# Altium footprint library plcc-socket.PCBLIB: 19 footprints (part 2 of 2)
Each footprint in its own frame and in the unit in brackets; x right, y up, seen from the top. Pads: shape width x height; smd on the part's side, far side on the other; paste and mask are expansions set on the pad; w line width, h text height; cw(c..) or ccw(c..) is an arc to the next point about the centre after c.
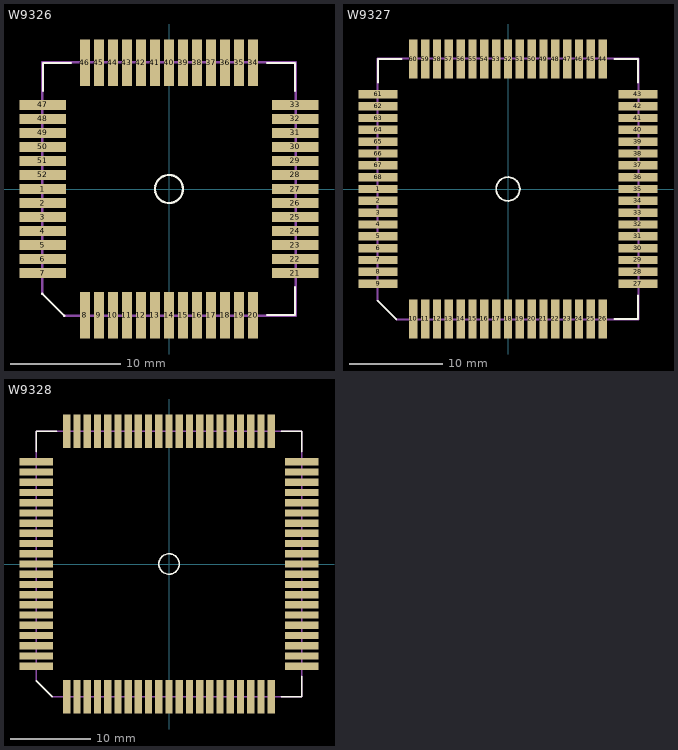
[diagram p1: the footprints below, top view; thin cyan lines are the x and y axes]

## W9326 [mil]
pads (52):
  rect 165.35x35.43 smd: 1(-450.79,0) 2(-450.79,-50) 3(-450.79,-100) 4(-450.79,-150) 5(-450.79,-200) 6(-450.79,-250) 7(-450.79,-300) 21(450.79,-300) 22(450.79,-250) 23(450.79,-200) 24(450.79,-150) 25(450.79,-100) 26(450.79,-50) 27(450.79,0) 28(450.79,50) 29(450.79,100) 30(450.79,150) 31(450.79,200) 32(450.79,250) 33(450.79,300) 47(-450.79,300) 48(-450.79,250) 49(-450.79,200) 50(-450.79,150) 51(-450.79,100) 52(-450.79,50)
  rect 35.43x165.35 smd: 8(-300,-450.79) 9(-250,-450.79) 10(-200,-450.79) 11(-150,-450.79) 12(-100,-450.79) 13(-50,-450.79) 14(0,-450.79) 15(50,-450.79) 16(100,-450.79) 17(150,-450.79) 18(200,-450.79) 19(250,-450.79) 20(300,-450.79) 34(300,450.79) 35(250,450.79) 36(200,450.79) 37(150,450.79) 38(100,450.79) 39(50,450.79) 40(0,450.79) 41(-50,450.79) 42(-100,450.79) 43(-150,450.79) 44(-200,450.79) 45(-250,450.79) 46(-300,450.79)
Top Overlay:
  circle w8: c0,0 r50
  lines w8: -452.76,-374.02 -374.02,-452.76 ; -450,350 -450,450 -350,450 ; 350,-450 450,-450 450,-350 ; 350,450 450,450 450,350
Top Paste:
  rectangle: -531.5,-16.73 -370.08,16.73
  rectangle: -531.5,-66.73 -370.08,-33.27
  rectangle: -531.5,-116.73 -370.08,-83.27
  rectangle: -531.5,-166.73 -370.08,-133.27
  rectangle: -531.5,-216.73 -370.08,-183.27
  rectangle: -531.5,-266.73 -370.08,-233.27
  rectangle: -531.5,-316.73 -370.08,-283.27
  region: -283.27,-531.5 -283.27,-370.08 -316.73,-370.08 -316.73,-531.5
  region: -233.27,-531.5 -233.27,-370.08 -266.73,-370.08 -266.73,-531.5
  region: -183.27,-531.5 -183.27,-370.08 -216.73,-370.08 -216.73,-531.5
  region: -133.27,-531.5 -133.27,-370.08 -166.73,-370.08 -166.73,-531.5
  region: -83.27,-531.5 -83.27,-370.08 -116.73,-370.08 -116.73,-531.5
  region: -33.27,-531.5 -33.27,-370.08 -66.73,-370.08 -66.73,-531.5
  region: 16.73,-531.5 16.73,-370.08 -16.73,-370.08 -16.73,-531.5
  region: 66.73,-531.5 66.73,-370.08 33.27,-370.08 33.27,-531.5
  region: 116.73,-531.5 116.73,-370.08 83.27,-370.08 83.27,-531.5
  region: 166.73,-531.5 166.73,-370.08 133.27,-370.08 133.27,-531.5
  region: 216.73,-531.5 216.73,-370.08 183.27,-370.08 183.27,-531.5
  region: 266.73,-531.5 266.73,-370.08 233.27,-370.08 233.27,-531.5
  region: 316.73,-531.5 316.73,-370.08 283.27,-370.08 283.27,-531.5
  region: 531.5,-283.27 370.08,-283.27 370.08,-316.73 531.5,-316.73
  region: 531.5,-233.27 370.08,-233.27 370.08,-266.73 531.5,-266.73
  region: 531.5,-183.27 370.08,-183.27 370.08,-216.73 531.5,-216.73
  region: 531.5,-133.27 370.08,-133.27 370.08,-166.73 531.5,-166.73
  region: 531.5,-83.27 370.08,-83.27 370.08,-116.73 531.5,-116.73
  region: 531.5,-33.27 370.08,-33.27 370.08,-66.73 531.5,-66.73
  region: 531.5,16.73 370.08,16.73 370.08,-16.73 531.5,-16.73
  region: 531.5,66.73 370.08,66.73 370.08,33.27 531.5,33.27
  region: 531.5,116.73 370.08,116.73 370.08,83.27 531.5,83.27
  region: 531.5,166.73 370.08,166.73 370.08,133.27 531.5,133.27
  region: 531.5,216.73 370.08,216.73 370.08,183.27 531.5,183.27
  region: 531.5,266.73 370.08,266.73 370.08,233.27 531.5,233.27
  region: 531.5,316.73 370.08,316.73 370.08,283.27 531.5,283.27
  region: 283.27,531.5 283.27,370.08 316.73,370.08 316.73,531.5
  region: 233.27,531.5 233.27,370.08 266.73,370.08 266.73,531.5
  region: 183.27,531.5 183.27,370.08 216.73,370.08 216.73,531.5
  region: 133.27,531.5 133.27,370.08 166.73,370.08 166.73,531.5
  region: 83.27,531.5 83.27,370.08 116.73,370.08 116.73,531.5
  region: 33.27,531.5 33.27,370.08 66.73,370.08 66.73,531.5
  region: -16.73,531.5 -16.73,370.08 16.73,370.08 16.73,531.5
  region: -66.73,531.5 -66.73,370.08 -33.27,370.08 -33.27,531.5
  region: -116.73,531.5 -116.73,370.08 -83.27,370.08 -83.27,531.5
  region: -166.73,531.5 -166.73,370.08 -133.27,370.08 -133.27,531.5
  region: -216.73,531.5 -216.73,370.08 -183.27,370.08 -183.27,531.5
  region: -266.73,531.5 -266.73,370.08 -233.27,370.08 -233.27,531.5
  region: -316.73,531.5 -316.73,370.08 -283.27,370.08 -283.27,531.5
  rectangle: -531.5,283.27 -370.08,316.73
  rectangle: -531.5,233.27 -370.08,266.73
  rectangle: -531.5,183.27 -370.08,216.73
  rectangle: -531.5,133.27 -370.08,166.73
  rectangle: -531.5,83.27 -370.08,116.73
  rectangle: -531.5,33.27 -370.08,66.73
Top Solder:
  rectangle: -535.43,-19.69 -366.14,19.69
  rectangle: -535.43,-69.69 -366.14,-30.32
  rectangle: -535.43,-119.69 -366.14,-80.32
  rectangle: -535.43,-169.69 -366.14,-130.32
  rectangle: -535.43,-219.69 -366.14,-180.32
  rectangle: -535.43,-269.69 -366.14,-230.32
  rectangle: -535.43,-319.69 -366.14,-280.32
  region: -280.31,-535.44 -280.31,-366.14 -319.69,-366.14 -319.69,-535.44
  region: -230.31,-535.44 -230.31,-366.14 -269.69,-366.14 -269.69,-535.44
  region: -180.31,-535.44 -180.31,-366.14 -219.69,-366.14 -219.69,-535.44
  region: -130.31,-535.44 -130.31,-366.13 -169.69,-366.13 -169.69,-535.44
  region: -80.31,-535.44 -80.31,-366.13 -119.69,-366.13 -119.69,-535.44
  region: -30.32,-535.44 -30.31,-366.13 -69.69,-366.13 -69.69,-535.44
  region: 19.68,-535.44 19.69,-366.13 -19.68,-366.13 -19.69,-535.44
  region: 69.69,-535.44 69.69,-366.13 30.32,-366.13 30.31,-535.44
  region: 119.69,-535.44 119.69,-366.13 80.31,-366.13 80.31,-535.44
  region: 169.69,-535.44 169.69,-366.13 130.31,-366.13 130.31,-535.44
  region: 219.69,-535.44 219.69,-366.14 180.31,-366.14 180.31,-535.44
  region: 269.69,-535.44 269.69,-366.14 230.31,-366.14 230.31,-535.44
  region: 319.69,-535.44 319.69,-366.14 280.31,-366.14 280.31,-535.44
  region: 535.43,-280.32 366.14,-280.32 366.14,-319.69 535.43,-319.69
  region: 535.43,-230.32 366.14,-230.32 366.14,-269.69 535.43,-269.69
  region: 535.43,-180.32 366.14,-180.32 366.14,-219.69 535.43,-219.69
  region: 535.43,-130.32 366.14,-130.32 366.14,-169.69 535.43,-169.69
  region: 535.43,-80.32 366.14,-80.32 366.14,-119.69 535.43,-119.69
  region: 535.43,-30.32 366.14,-30.32 366.14,-69.69 535.43,-69.69
  region: 535.43,19.69 366.14,19.69 366.14,-19.69 535.43,-19.69
  region: 535.43,69.69 366.14,69.69 366.14,30.32 535.43,30.32
  region: 535.43,119.69 366.14,119.69 366.14,80.32 535.43,80.32
  region: 535.43,169.69 366.14,169.69 366.14,130.32 535.43,130.32
  region: 535.43,219.69 366.14,219.69 366.14,180.32 535.43,180.32
  region: 535.43,269.69 366.14,269.69 366.14,230.32 535.43,230.32
  region: 535.43,319.69 366.14,319.69 366.14,280.32 535.43,280.32
  region: 280.31,535.44 280.31,366.14 319.69,366.14 319.69,535.44
  region: 230.32,535.44 230.31,366.14 269.68,366.14 269.69,535.44
  region: 180.32,535.44 180.31,366.14 219.68,366.14 219.69,535.44
  region: 130.32,535.44 130.31,366.13 169.68,366.13 169.69,535.44
  region: 80.32,535.44 80.31,366.13 119.68,366.13 119.69,535.44
  region: 30.32,535.44 30.31,366.13 69.68,366.13 69.69,535.44
  region: -19.68,535.44 -19.69,366.13 19.68,366.13 19.69,535.44
  region: -69.68,535.44 -69.69,366.13 -30.32,366.13 -30.31,535.44
  region: -119.68,535.44 -119.69,366.13 -80.32,366.13 -80.31,535.44
  region: -169.68,535.44 -169.69,366.13 -130.32,366.13 -130.31,535.44
  region: -219.68,535.44 -219.69,366.14 -180.32,366.14 -180.31,535.44
  region: -269.68,535.44 -269.69,366.14 -230.32,366.14 -230.31,535.44
  region: -319.69,535.44 -319.69,366.14 -280.31,366.14 -280.31,535.44
  rectangle: -535.43,280.32 -366.14,319.69
  rectangle: -535.43,230.32 -366.14,269.69
  rectangle: -535.43,180.32 -366.14,219.69
  rectangle: -535.43,130.32 -366.14,169.69
  rectangle: -535.43,80.32 -366.14,119.69
  rectangle: -535.43,30.32 -366.14,69.69
Mechanical 16:
  lines w8: -452.76,-374.02 -452.76,452.76 452.76,452.76 452.76,-452.76 -374.02,-452.76

## W9327 [mil]
pads (68):
  rect 165.35x35.43 smd: 1(-549.21,0) 2(-549.21,-50) 3(-549.21,-100) 4(-549.21,-150) 5(-549.21,-200) 6(-549.21,-250) 7(-549.21,-300) 8(-549.21,-350) 9(-549.21,-400) 27(549.21,-400) 28(549.21,-350) 29(549.21,-300) 30(549.21,-250) 31(549.21,-200) 32(549.21,-150) 33(549.21,-100) 34(549.21,-50) 35(549.21,0) 36(549.21,50) 37(549.21,100) 38(549.21,150) 39(549.21,200) 40(549.21,250) 41(549.21,300) 42(549.21,350) 43(549.21,400) 61(-549.21,400) 62(-549.21,350) 63(-549.21,300) 64(-549.21,250) 65(-549.21,200) 66(-549.21,150) 67(-549.21,100) 68(-549.21,50)
  rect 35.43x165.35 smd: 10(-400,-549.21) 11(-350,-549.21) 12(-300,-549.21) 13(-250,-549.21) 14(-200,-549.21) 15(-150,-549.21) 16(-100,-549.21) 17(-50,-549.21) 18(0,-549.21) 19(50,-549.21) 20(100,-549.21) 21(150,-549.21) 22(200,-549.21) 23(250,-549.21) 24(300,-549.21) 25(350,-549.21) 26(400,-549.21) 44(400,549.21) 45(350,549.21) 46(300,549.21) 47(250,549.21) 48(200,549.21) 49(150,549.21) 50(100,549.21) 51(50,549.21) 52(0,549.21) 53(-50,549.21) 54(-100,549.21) 55(-150,549.21) 56(-200,549.21) 57(-250,549.21) 58(-300,549.21) 59(-350,549.21) 60(-400,549.21)
Top Overlay:
  circle w8: c0,0 r50
  lines w8: -551.18,-472.44 -472.44,-551.18 ; -550,450 -550,550 -450,550 ; 450,-550 550,-550 550,-450 ; 450,550 550,550 550,450
Top Paste:
  rectangle: -629.92,-16.73 -468.5,16.73
  rectangle: -629.92,-66.73 -468.5,-33.27
  rectangle: -629.92,-116.73 -468.5,-83.27
  rectangle: -629.92,-166.73 -468.5,-133.27
  rectangle: -629.92,-216.73 -468.5,-183.27
  rectangle: -629.92,-266.73 -468.5,-233.27
  rectangle: -629.92,-316.73 -468.5,-283.27
  rectangle: -629.92,-366.73 -468.5,-333.27
  rectangle: -629.92,-416.73 -468.5,-383.27
  region: -383.27,-629.92 -383.27,-468.5 -416.73,-468.5 -416.73,-629.92
  region: -333.27,-629.92 -333.27,-468.5 -366.73,-468.5 -366.73,-629.92
  region: -283.27,-629.92 -283.27,-468.5 -316.73,-468.5 -316.73,-629.92
  region: -233.27,-629.92 -233.27,-468.5 -266.73,-468.5 -266.73,-629.92
  region: -183.27,-629.92 -183.27,-468.5 -216.73,-468.5 -216.73,-629.92
  region: -133.27,-629.92 -133.27,-468.5 -166.73,-468.5 -166.73,-629.92
  region: -83.27,-629.92 -83.27,-468.5 -116.73,-468.5 -116.73,-629.92
  region: -33.27,-629.92 -33.27,-468.5 -66.73,-468.5 -66.73,-629.92
  region: 16.73,-629.92 16.73,-468.5 -16.73,-468.5 -16.73,-629.92
  region: 66.73,-629.92 66.73,-468.5 33.27,-468.5 33.27,-629.92
  region: 116.73,-629.92 116.73,-468.5 83.27,-468.5 83.27,-629.92
  region: 166.73,-629.92 166.73,-468.5 133.27,-468.5 133.27,-629.92
  region: 216.73,-629.92 216.73,-468.5 183.27,-468.5 183.27,-629.92
  region: 266.73,-629.92 266.73,-468.5 233.27,-468.5 233.27,-629.92
  region: 316.73,-629.92 316.73,-468.5 283.27,-468.5 283.27,-629.92
  region: 366.73,-629.92 366.73,-468.5 333.27,-468.5 333.27,-629.92
  region: 416.73,-629.92 416.73,-468.5 383.27,-468.5 383.27,-629.92
  region: 629.92,-383.27 468.5,-383.27 468.5,-416.73 629.92,-416.73
  region: 629.92,-333.27 468.5,-333.27 468.5,-366.73 629.92,-366.73
  region: 629.92,-283.27 468.5,-283.27 468.5,-316.73 629.92,-316.73
  region: 629.92,-233.27 468.5,-233.27 468.5,-266.73 629.92,-266.73
  region: 629.92,-183.27 468.5,-183.27 468.5,-216.73 629.92,-216.73
  region: 629.92,-133.27 468.5,-133.27 468.5,-166.73 629.92,-166.73
  region: 629.92,-83.27 468.5,-83.27 468.5,-116.73 629.92,-116.73
  region: 629.92,-33.27 468.5,-33.27 468.5,-66.73 629.92,-66.73
  region: 629.92,16.73 468.5,16.73 468.5,-16.73 629.92,-16.73
  region: 629.92,66.73 468.5,66.73 468.5,33.27 629.92,33.27
  region: 629.92,116.73 468.5,116.73 468.5,83.27 629.92,83.27
  region: 629.92,166.73 468.5,166.73 468.5,133.27 629.92,133.27
  region: 629.92,216.73 468.5,216.73 468.5,183.27 629.92,183.27
  region: 629.92,266.73 468.5,266.73 468.5,233.27 629.92,233.27
  region: 629.92,316.73 468.5,316.73 468.5,283.27 629.92,283.27
  region: 629.92,366.73 468.5,366.73 468.5,333.27 629.92,333.27
  region: 629.92,416.73 468.5,416.73 468.5,383.27 629.92,383.27
  region: 383.27,629.92 383.27,468.5 416.73,468.5 416.73,629.92
  region: 333.27,629.92 333.27,468.5 366.73,468.5 366.73,629.92
  region: 283.27,629.92 283.27,468.5 316.73,468.5 316.73,629.92
  region: 233.27,629.92 233.27,468.5 266.73,468.5 266.73,629.92
  region: 183.27,629.92 183.27,468.5 216.73,468.5 216.73,629.92
  region: 133.27,629.92 133.27,468.5 166.73,468.5 166.73,629.92
  region: 83.27,629.92 83.27,468.5 116.73,468.5 116.73,629.92
  region: 33.27,629.92 33.27,468.5 66.73,468.5 66.73,629.92
  region: -16.73,629.92 -16.73,468.5 16.73,468.5 16.73,629.92
  region: -66.73,629.92 -66.73,468.5 -33.27,468.5 -33.27,629.92
  region: -116.73,629.92 -116.73,468.5 -83.27,468.5 -83.27,629.92
  region: -166.73,629.92 -166.73,468.5 -133.27,468.5 -133.27,629.92
  region: -216.73,629.92 -216.73,468.5 -183.27,468.5 -183.27,629.92
  region: -266.73,629.92 -266.73,468.5 -233.27,468.5 -233.27,629.92
  region: -316.73,629.92 -316.73,468.5 -283.27,468.5 -283.27,629.92
  region: -366.73,629.92 -366.73,468.5 -333.27,468.5 -333.27,629.92
  region: -416.73,629.92 -416.73,468.5 -383.27,468.5 -383.27,629.92
  rectangle: -629.92,383.27 -468.5,416.73
  rectangle: -629.92,333.27 -468.5,366.73
  rectangle: -629.92,283.27 -468.5,316.73
  rectangle: -629.92,233.27 -468.5,266.73
  rectangle: -629.92,183.27 -468.5,216.73
  rectangle: -629.92,133.27 -468.5,166.73
  rectangle: -629.92,83.27 -468.5,116.73
  rectangle: -629.92,33.27 -468.5,66.73
Top Solder:
  rectangle: -633.86,-19.69 -464.57,19.69
  rectangle: -633.86,-69.69 -464.57,-30.32
  rectangle: -633.86,-119.69 -464.57,-80.32
  rectangle: -633.86,-169.69 -464.57,-130.32
  rectangle: -633.86,-219.69 -464.57,-180.32
  rectangle: -633.86,-269.69 -464.57,-230.32
  rectangle: -633.86,-319.69 -464.57,-280.32
  rectangle: -633.86,-369.69 -464.57,-330.32
  rectangle: -633.86,-419.69 -464.57,-380.32
  region: -380.31,-633.86 -380.31,-464.56 -419.69,-464.56 -419.69,-633.86
  region: -330.31,-633.86 -330.31,-464.56 -369.69,-464.56 -369.69,-633.86
  region: -280.31,-633.86 -280.31,-464.56 -319.69,-464.56 -319.69,-633.86
  region: -230.31,-633.86 -230.31,-464.56 -269.69,-464.56 -269.69,-633.86
  region: -180.31,-633.86 -180.31,-464.56 -219.69,-464.56 -219.69,-633.86
  region: -130.31,-633.86 -130.31,-464.56 -169.69,-464.56 -169.69,-633.86
  region: -80.31,-633.86 -80.31,-464.56 -119.69,-464.56 -119.69,-633.86
  region: -30.32,-633.86 -30.31,-464.56 -69.69,-464.56 -69.69,-633.86
  region: 19.68,-633.86 19.69,-464.56 -19.68,-464.56 -19.69,-633.86
  region: 69.69,-633.86 69.69,-464.56 30.32,-464.56 30.31,-633.86
  region: 119.69,-633.86 119.69,-464.56 80.31,-464.56 80.31,-633.86
  region: 169.69,-633.86 169.69,-464.56 130.31,-464.56 130.31,-633.86
  region: 219.69,-633.86 219.69,-464.56 180.31,-464.56 180.31,-633.86
  region: 269.69,-633.86 269.69,-464.56 230.31,-464.56 230.31,-633.86
  region: 319.69,-633.86 319.69,-464.56 280.31,-464.56 280.31,-633.86
  region: 369.69,-633.86 369.69,-464.56 330.31,-464.56 330.31,-633.86
  region: 419.69,-633.86 419.69,-464.56 380.31,-464.56 380.31,-633.86
  region: 633.86,-380.32 464.57,-380.32 464.57,-419.69 633.86,-419.69
  region: 633.86,-330.32 464.57,-330.32 464.57,-369.69 633.86,-369.69
  region: 633.86,-280.32 464.57,-280.32 464.57,-319.69 633.86,-319.69
  region: 633.86,-230.32 464.57,-230.32 464.57,-269.69 633.86,-269.69
  region: 633.86,-180.32 464.57,-180.32 464.57,-219.69 633.86,-219.69
  region: 633.86,-130.32 464.57,-130.32 464.57,-169.69 633.86,-169.69
  region: 633.86,-80.32 464.57,-80.32 464.57,-119.69 633.86,-119.69
  region: 633.86,-30.32 464.57,-30.32 464.57,-69.69 633.86,-69.69
  region: 633.86,19.69 464.57,19.69 464.57,-19.69 633.86,-19.69
  region: 633.86,69.69 464.57,69.69 464.57,30.32 633.86,30.32
  region: 633.86,119.69 464.57,119.69 464.57,80.32 633.86,80.32
  region: 633.86,169.69 464.57,169.69 464.57,130.32 633.86,130.32
  region: 633.86,219.69 464.57,219.69 464.57,180.32 633.86,180.32
  region: 633.86,269.69 464.57,269.69 464.57,230.32 633.86,230.32
  region: 633.86,319.69 464.57,319.69 464.57,280.32 633.86,280.32
  region: 633.86,369.69 464.57,369.69 464.57,330.32 633.86,330.32
  region: 633.86,419.69 464.57,419.69 464.57,380.32 633.86,380.32
  region: 380.31,633.86 380.31,464.56 419.69,464.56 419.69,633.86
  region: 330.31,633.86 330.31,464.56 369.69,464.56 369.69,633.86
  region: 280.31,633.86 280.31,464.56 319.69,464.56 319.69,633.86
  region: 230.32,633.86 230.31,464.56 269.68,464.56 269.69,633.86
  region: 180.32,633.86 180.31,464.56 219.68,464.56 219.69,633.86
  region: 130.32,633.86 130.31,464.56 169.68,464.56 169.69,633.86
  region: 80.32,633.86 80.31,464.56 119.68,464.56 119.69,633.86
  region: 30.32,633.86 30.31,464.56 69.68,464.56 69.69,633.86
  region: -19.68,633.86 -19.69,464.56 19.68,464.56 19.69,633.86
  region: -69.68,633.86 -69.69,464.56 -30.32,464.56 -30.31,633.86
  region: -119.68,633.86 -119.69,464.56 -80.32,464.56 -80.31,633.86
  region: -169.68,633.86 -169.69,464.56 -130.32,464.56 -130.31,633.86
  region: -219.68,633.86 -219.69,464.56 -180.32,464.56 -180.31,633.86
  region: -269.68,633.86 -269.69,464.56 -230.32,464.56 -230.31,633.86
  region: -319.69,633.86 -319.69,464.56 -280.31,464.56 -280.31,633.86
  region: -369.69,633.86 -369.69,464.56 -330.31,464.56 -330.31,633.86
  region: -419.69,633.86 -419.69,464.56 -380.31,464.56 -380.31,633.86
  rectangle: -633.86,380.32 -464.57,419.69
  rectangle: -633.86,330.32 -464.57,369.69
  rectangle: -633.86,280.32 -464.57,319.69
  rectangle: -633.86,230.32 -464.57,269.69
  rectangle: -633.86,180.32 -464.57,219.69
  rectangle: -633.86,130.32 -464.57,169.69
  rectangle: -633.86,80.32 -464.57,119.69
  rectangle: -633.86,30.32 -464.57,69.69
Mechanical 16:
  lines w8: -551.18,-472.44 -551.18,551.18 551.18,551.18 551.18,-551.18 -472.44,-551.18

## W9328 [mil]
pads (84):
  rect 165.35x35.43 smd: 1(-649.61,0) 2(-649.61,-50) 3(-649.61,-100) 4(-649.61,-150) 5(-649.61,-200) 6(-649.61,-250) 7(-649.61,-300) 8(-649.61,-350) 9(-649.61,-400) 10(-649.61,-450) 11(-649.61,-500) 33(649.61,-500) 34(649.61,-450) 35(649.61,-400) 36(649.61,-350) 37(649.61,-300) 38(649.61,-250) 39(649.61,-200) 40(649.61,-150) 41(649.61,-100) 42(649.61,-50) 43(649.61,0) 44(649.61,50) 45(649.61,100) 46(649.61,150) 47(649.61,200) 48(649.61,250) 49(649.61,300) 50(649.61,350) 51(649.61,400) 52(649.61,450) 53(649.61,500) 75(-649.61,500) 76(-649.61,450) 77(-649.61,400) 78(-649.61,350) 79(-649.61,300) 80(-649.61,250) 81(-649.61,200) 82(-649.61,150) 83(-649.61,100) 84(-649.61,50)
  rect 35.43x165.35 smd: 12(-500,-649.61) 13(-450,-649.61) 14(-400,-649.61) 15(-350,-649.61) 16(-300,-649.61) 17(-250,-649.61) 18(-200,-649.61) 19(-150,-649.61) 20(-100,-649.61) 21(-50,-649.61) 22(0,-649.61) 23(50,-649.61) 24(100,-649.61) 25(150,-649.61) 26(200,-649.61) 27(250,-649.61) 28(300,-649.61) 29(350,-649.61) 30(400,-649.61) 31(450,-649.61) 32(500,-649.61) 54(500,649.61) 55(450,649.61) 56(400,649.61) 57(350,649.61) 58(300,649.61) 59(250,649.61) 60(200,649.61) 61(150,649.61) 62(100,649.61) 63(50,649.61) 64(0,649.61) 65(-50,649.61) 66(-100,649.61) 67(-150,649.61) 68(-200,649.61) 69(-250,649.61) 70(-300,649.61) 71(-350,649.61) 72(-400,649.61) 73(-450,649.61) 74(-500,649.61)
Top Overlay:
  circle w8: c0,0 r50
  lines w8: -650,550 -650,650 -550,650 ; -649.61,-570.87 -570.87,-649.61 ; 550,-650 650,-650 650,-550 ; 550,650 650,650 650,550
Top Paste:
  rectangle: -730.32,-16.73 -568.9,16.73
  rectangle: -730.32,-66.73 -568.9,-33.27
  rectangle: -730.32,-116.73 -568.9,-83.27
  rectangle: -730.32,-166.73 -568.9,-133.27
  rectangle: -730.32,-216.73 -568.9,-183.27
  rectangle: -730.32,-266.73 -568.9,-233.27
  rectangle: -730.32,-316.73 -568.9,-283.27
  rectangle: -730.32,-366.73 -568.9,-333.27
  rectangle: -730.32,-416.73 -568.9,-383.27
  rectangle: -730.32,-466.73 -568.9,-433.27
  rectangle: -730.32,-516.73 -568.9,-483.27
  region: -483.26,-730.32 -483.26,-568.89 -516.74,-568.89 -516.74,-730.32
  region: -433.26,-730.32 -433.26,-568.89 -466.74,-568.89 -466.74,-730.32
  region: -383.26,-730.32 -383.26,-568.89 -416.74,-568.89 -416.74,-730.32
  region: -333.26,-730.32 -333.26,-568.89 -366.74,-568.89 -366.74,-730.32
  region: -283.26,-730.32 -283.26,-568.89 -316.74,-568.89 -316.74,-730.32
  region: -233.26,-730.32 -233.26,-568.89 -266.74,-568.89 -266.74,-730.32
  region: -183.26,-730.32 -183.26,-568.89 -216.74,-568.89 -216.74,-730.32
  region: -133.26,-730.32 -133.26,-568.89 -166.74,-568.89 -166.74,-730.32
  region: -83.26,-730.32 -83.26,-568.89 -116.74,-568.89 -116.74,-730.32
  region: -33.26,-730.32 -33.26,-568.89 -66.74,-568.89 -66.74,-730.32
  region: 16.74,-730.32 16.74,-568.89 -16.74,-568.89 -16.74,-730.32
  region: 66.74,-730.32 66.74,-568.89 33.26,-568.89 33.26,-730.32
  region: 116.74,-730.32 116.74,-568.89 83.26,-568.89 83.26,-730.32
  region: 166.74,-730.32 166.74,-568.89 133.26,-568.89 133.26,-730.32
  region: 216.74,-730.32 216.74,-568.89 183.26,-568.89 183.26,-730.32
  region: 266.74,-730.32 266.74,-568.89 233.26,-568.89 233.26,-730.32
  region: 316.74,-730.32 316.74,-568.89 283.26,-568.89 283.26,-730.32
  region: 366.74,-730.32 366.74,-568.89 333.26,-568.89 333.26,-730.32
  region: 416.74,-730.32 416.74,-568.89 383.26,-568.89 383.26,-730.32
  region: 466.74,-730.32 466.74,-568.89 433.26,-568.89 433.26,-730.32
  region: 516.74,-730.32 516.74,-568.89 483.26,-568.89 483.26,-730.32
  region: 730.32,-483.27 568.9,-483.27 568.9,-516.73 730.32,-516.73
  region: 730.32,-433.27 568.9,-433.27 568.9,-466.73 730.32,-466.73
  region: 730.32,-383.27 568.9,-383.27 568.9,-416.73 730.32,-416.73
  region: 730.32,-333.27 568.9,-333.27 568.9,-366.73 730.32,-366.73
  region: 730.32,-283.27 568.9,-283.27 568.9,-316.73 730.32,-316.73
  region: 730.32,-233.27 568.9,-233.27 568.9,-266.73 730.32,-266.73
  region: 730.32,-183.27 568.9,-183.27 568.9,-216.73 730.32,-216.73
  region: 730.32,-133.27 568.9,-133.27 568.9,-166.73 730.32,-166.73
  region: 730.32,-83.27 568.9,-83.27 568.9,-116.73 730.32,-116.73
  region: 730.32,-33.27 568.9,-33.27 568.9,-66.73 730.32,-66.73
  region: 730.32,16.73 568.9,16.73 568.9,-16.73 730.32,-16.73
  region: 730.32,66.73 568.9,66.73 568.9,33.27 730.32,33.27
  region: 730.32,116.73 568.9,116.73 568.9,83.27 730.32,83.27
  region: 730.32,166.73 568.9,166.73 568.9,133.27 730.32,133.27
  region: 730.32,216.73 568.9,216.73 568.9,183.27 730.32,183.27
  region: 730.32,266.73 568.9,266.73 568.9,233.27 730.32,233.27
  region: 730.32,316.73 568.9,316.73 568.9,283.27 730.32,283.27
  region: 730.32,366.73 568.9,366.73 568.9,333.27 730.32,333.27
  region: 730.32,416.73 568.9,416.73 568.9,383.27 730.32,383.27
  region: 730.32,466.73 568.9,466.73 568.9,433.27 730.32,433.27
  region: 730.32,516.73 568.9,516.73 568.9,483.27 730.32,483.27
  region: 483.26,730.32 483.26,568.89 516.74,568.89 516.74,730.32
  region: 433.26,730.32 433.26,568.89 466.74,568.89 466.74,730.32
  region: 383.26,730.32 383.26,568.89 416.74,568.89 416.74,730.32
  region: 333.26,730.32 333.26,568.89 366.74,568.89 366.74,730.32
  region: 283.26,730.32 283.26,568.89 316.74,568.89 316.74,730.32
  region: 233.27,730.32 233.26,568.89 266.74,568.89 266.74,730.32
  region: 183.27,730.32 183.26,568.89 216.73,568.89 216.74,730.32
  region: 133.27,730.32 133.26,568.89 166.73,568.89 166.74,730.32
  region: 83.27,730.32 83.26,568.89 116.73,568.89 116.74,730.32
  region: 33.27,730.32 33.26,568.89 66.73,568.89 66.74,730.32
  region: -16.73,730.32 -16.74,568.89 16.73,568.89 16.74,730.32
  region: -66.73,730.32 -66.74,568.89 -33.27,568.89 -33.26,730.32
  region: -116.73,730.32 -116.74,568.89 -83.27,568.89 -83.26,730.32
  region: -166.73,730.32 -166.74,568.89 -133.27,568.89 -133.26,730.32
  region: -216.73,730.32 -216.74,568.89 -183.27,568.89 -183.26,730.32
  region: -266.74,730.32 -266.74,568.89 -233.27,568.89 -233.26,730.32
  region: -316.74,730.32 -316.74,568.89 -283.26,568.89 -283.26,730.32
  region: -366.74,730.32 -366.74,568.89 -333.26,568.89 -333.26,730.32
  region: -416.74,730.32 -416.74,568.89 -383.26,568.89 -383.26,730.32
  region: -466.74,730.32 -466.74,568.89 -433.26,568.89 -433.26,730.32
  region: -516.74,730.32 -516.74,568.89 -483.26,568.89 -483.26,730.32
  rectangle: -730.32,483.27 -568.9,516.73
  rectangle: -730.32,433.27 -568.9,466.73
  rectangle: -730.32,383.27 -568.9,416.73
  rectangle: -730.32,333.27 -568.9,366.73
  rectangle: -730.32,283.27 -568.9,316.73
  rectangle: -730.32,233.27 -568.9,266.73
  rectangle: -730.32,183.27 -568.9,216.73
  rectangle: -730.32,133.27 -568.9,166.73
  rectangle: -730.32,83.27 -568.9,116.73
  rectangle: -730.32,33.27 -568.9,66.73
Top Solder:
  rectangle: -734.25,-19.69 -564.96,19.69
  rectangle: -734.25,-69.69 -564.96,-30.32
  rectangle: -734.25,-119.69 -564.96,-80.32
  rectangle: -734.25,-169.69 -564.96,-130.32
  rectangle: -734.25,-219.69 -564.96,-180.32
  rectangle: -734.25,-269.69 -564.96,-230.32
  rectangle: -734.25,-319.69 -564.96,-280.32
  rectangle: -734.25,-369.69 -564.96,-330.32
  rectangle: -734.25,-419.69 -564.96,-380.32
  rectangle: -734.25,-469.69 -564.96,-430.32
  rectangle: -734.25,-519.69 -564.96,-480.32
  region: -480.31,-734.25 -480.31,-564.96 -519.68,-564.96 -519.68,-734.25
  region: -430.31,-734.25 -430.31,-564.96 -469.69,-564.96 -469.69,-734.25
  region: -380.31,-734.25 -380.31,-564.96 -419.69,-564.96 -419.69,-734.25
  region: -330.31,-734.25 -330.31,-564.96 -369.69,-564.96 -369.69,-734.25
  region: -280.31,-734.25 -280.31,-564.96 -319.69,-564.96 -319.69,-734.25
  region: -230.31,-734.25 -230.31,-564.96 -269.69,-564.96 -269.69,-734.25
  region: -180.31,-734.25 -180.31,-564.96 -219.69,-564.96 -219.69,-734.25
  region: -130.31,-734.25 -130.31,-564.96 -169.69,-564.96 -169.69,-734.25
  region: -80.31,-734.25 -80.31,-564.96 -119.69,-564.96 -119.69,-734.25
  region: -30.32,-734.25 -30.31,-564.96 -69.69,-564.96 -69.69,-734.25
  region: 19.68,-734.25 19.69,-564.96 -19.68,-564.96 -19.69,-734.25
  region: 69.69,-734.25 69.69,-564.96 30.32,-564.96 30.31,-734.25
  region: 119.69,-734.25 119.69,-564.96 80.31,-564.96 80.31,-734.25
  region: 169.69,-734.25 169.69,-564.96 130.31,-564.96 130.31,-734.25
  region: 219.69,-734.25 219.69,-564.96 180.31,-564.96 180.31,-734.25
  region: 269.69,-734.25 269.69,-564.96 230.31,-564.96 230.31,-734.25
  region: 319.69,-734.25 319.69,-564.96 280.31,-564.96 280.31,-734.25
  region: 369.69,-734.25 369.69,-564.96 330.31,-564.96 330.31,-734.25
  region: 419.69,-734.25 419.69,-564.96 380.31,-564.96 380.31,-734.25
  region: 469.69,-734.25 469.69,-564.96 430.31,-564.96 430.31,-734.25
  region: 519.68,-734.25 519.68,-564.96 480.31,-564.96 480.31,-734.25
  region: 734.25,-480.32 564.96,-480.32 564.96,-519.69 734.25,-519.69
  region: 734.25,-430.32 564.96,-430.32 564.96,-469.69 734.25,-469.69
  region: 734.25,-380.32 564.96,-380.32 564.96,-419.69 734.25,-419.69
  region: 734.25,-330.32 564.96,-330.32 564.96,-369.69 734.25,-369.69
  region: 734.25,-280.32 564.96,-280.32 564.96,-319.69 734.25,-319.69
  region: 734.25,-230.32 564.96,-230.32 564.96,-269.69 734.25,-269.69
  region: 734.25,-180.32 564.96,-180.32 564.96,-219.69 734.25,-219.69
  region: 734.25,-130.32 564.96,-130.32 564.96,-169.69 734.25,-169.69
  region: 734.25,-80.32 564.96,-80.32 564.96,-119.69 734.25,-119.69
  region: 734.25,-30.32 564.96,-30.32 564.96,-69.69 734.25,-69.69
  region: 734.25,19.69 564.96,19.69 564.96,-19.69 734.25,-19.69
  region: 734.25,69.69 564.96,69.69 564.96,30.32 734.25,30.32
  region: 734.25,119.69 564.96,119.69 564.96,80.32 734.25,80.32
  region: 734.25,169.69 564.96,169.69 564.96,130.32 734.25,130.32
  region: 734.25,219.69 564.96,219.69 564.96,180.32 734.25,180.32
  region: 734.25,269.69 564.96,269.69 564.96,230.32 734.25,230.32
  region: 734.25,319.69 564.96,319.69 564.96,280.32 734.25,280.32
  region: 734.25,369.69 564.96,369.69 564.96,330.32 734.25,330.32
  region: 734.25,419.69 564.96,419.69 564.96,380.32 734.25,380.32
  region: 734.25,469.69 564.96,469.69 564.96,430.32 734.25,430.32
  region: 734.25,519.69 564.96,519.69 564.96,480.32 734.25,480.32
  region: 480.31,734.25 480.31,564.96 519.68,564.96 519.68,734.25
  region: 430.31,734.25 430.31,564.96 469.69,564.96 469.69,734.25
  region: 380.31,734.25 380.31,564.96 419.69,564.96 419.69,734.25
  region: 330.31,734.25 330.31,564.96 369.69,564.96 369.69,734.25
  region: 280.31,734.25 280.31,564.96 319.69,564.96 319.69,734.25
  region: 230.32,734.25 230.31,564.96 269.68,564.96 269.69,734.25
  region: 180.32,734.25 180.31,564.96 219.68,564.96 219.69,734.25
  region: 130.32,734.25 130.31,564.96 169.68,564.96 169.69,734.25
  region: 80.32,734.25 80.31,564.96 119.68,564.96 119.69,734.25
  region: 30.32,734.25 30.31,564.96 69.68,564.96 69.69,734.25
  region: -19.68,734.25 -19.69,564.96 19.68,564.96 19.69,734.25
  region: -69.68,734.25 -69.69,564.96 -30.32,564.96 -30.31,734.25
  region: -119.68,734.25 -119.69,564.96 -80.32,564.96 -80.31,734.25
  region: -169.68,734.25 -169.69,564.96 -130.32,564.96 -130.31,734.25
  region: -219.68,734.25 -219.69,564.96 -180.32,564.96 -180.31,734.25
  region: -269.68,734.25 -269.69,564.96 -230.32,564.96 -230.31,734.25
  region: -319.69,734.25 -319.69,564.96 -280.31,564.96 -280.31,734.25
  region: -369.69,734.25 -369.69,564.96 -330.31,564.96 -330.31,734.25
  region: -419.69,734.25 -419.69,564.96 -380.31,564.96 -380.31,734.25
  region: -469.69,734.25 -469.69,564.96 -430.31,564.96 -430.31,734.25
  region: -519.68,734.25 -519.68,564.96 -480.31,564.96 -480.31,734.25
  rectangle: -734.25,480.32 -564.96,519.69
  rectangle: -734.25,430.32 -564.96,469.69
  rectangle: -734.25,380.32 -564.96,419.69
  rectangle: -734.25,330.32 -564.96,369.69
  rectangle: -734.25,280.32 -564.96,319.69
  rectangle: -734.25,230.32 -564.96,269.69
  rectangle: -734.25,180.32 -564.96,219.69
  rectangle: -734.25,130.32 -564.96,169.69
  rectangle: -734.25,80.32 -564.96,119.69
  rectangle: -734.25,30.32 -564.96,69.69
Mechanical 16:
  lines w8: -649.61,-570.87 -649.61,649.61 649.61,649.61 649.61,-649.61 -570.87,-649.61